# Altium footprint library DO-214AA.PcbLib: 1 footprints
Each footprint in its own frame and in the unit in brackets; x right, y up, seen from the top. Pads: shape width x height; smd on the part's side, far side on the other; paste and mask are expansions set on the pad; w line width, h text height; cw(c..) or ccw(c..) is an arc to the next point about the centre after c.
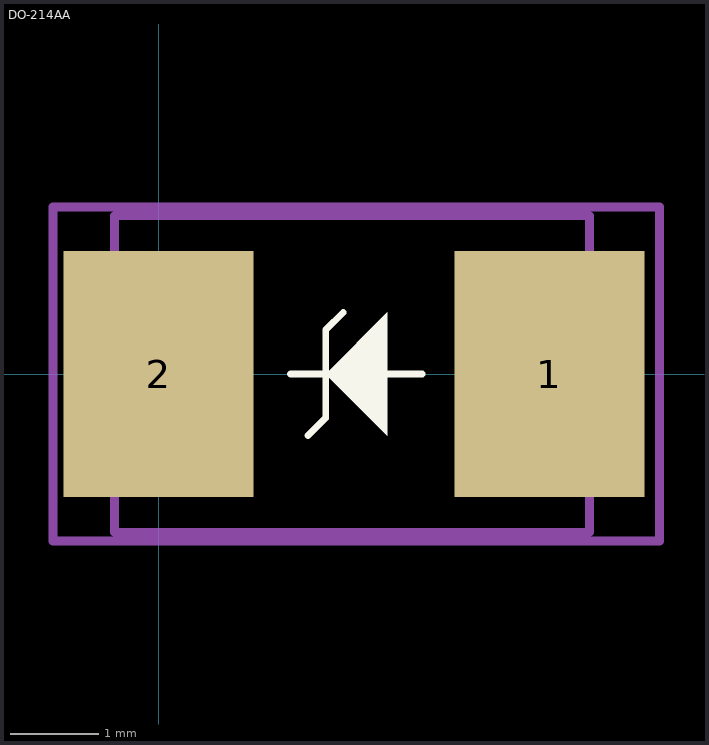
[diagram p0: the footprint, top view; thin cyan lines are the x and y axes]

## DO-214AA [mil] "Diode, DO-214AA"
pads (2):
  rect 85x110 smd: 1(175,0) 2(0,0)
Top Overlay:
  region: 74.8,0 102.36,27.56 102.36,-27.56
  lines w3: 59.06,0 118.11,0 ; 66.93,-27.56 74.8,-19.69 ; 66.93,0 70.87,0 ; 82.68,27.56 74.8,19.68 74.8,-19.68 ; 74.8,-19.69 74.8,-19.68 ; 74.8,-19.69 74.8,-19.68
Mechanical 1:
  text ".Designator" at 0,-51.18 h39.37
Mechanical 13:
  lines w4: -19.68,-70.87 192.91,-70.87 192.91,70.87 -19.68,70.87 -19.68,-70.87
Mechanical 15:
  lines w4: -47.24,-74.8 224.41,-74.8 224.41,74.8 -47.24,74.8 -47.24,-74.8
3D body: height 89.57, standoff -1.18, extent -19.69,-70.86 192.9,70.87